# Altium schematic symbol library SDR_LAPAC.SCHLIB: 33 symbols
Pins are listed as number, name and electrical type; pins without a type are passive.

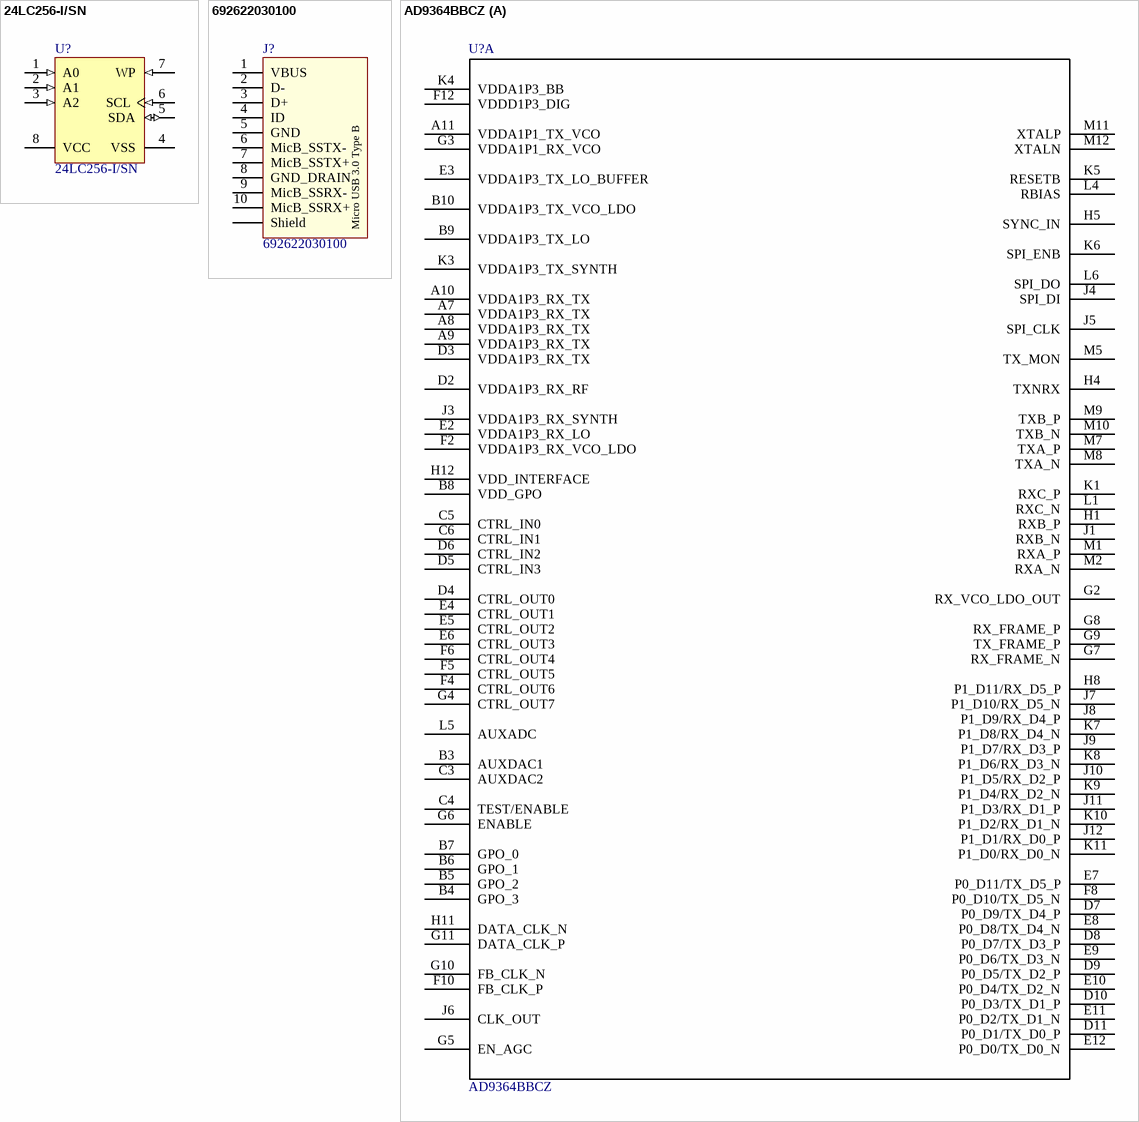
[diagram p0: symbols 24LC256-I/SN to AD9364BBCZ]

## 24LC256-I/SN
designator U?
256Kbit, 400kHz, 2.5V, I2C Serial EEPROM, 8-Pin SOIC 150mil, Industrial Temperature; Manufacturer: Microchip; PartNumber: 24LC256T-I/SN; Descripción: EEPROM 32kx8 - 2.5V; CostoVendedor1: 0.92; Vendedor1: Mouser; Vendedor2: Digi-Key; DataSheet: http://ww1.microchip.com/downloads/en/DeviceDoc/20001203U.pdf; Package: SOIC8; LinkVendedor1: https://ar.mouser.com/ProductDetail/Microchip-Technology/24LC256T-I-SN?qs=sGAEpiMZZMuVhdAcoizlRfa9Ygym%252bTXjZOCyhyW7tm0%3d; Stock1: 5600
footprint SOIC8-N_MC
footprint SOIC-SN8_L (SOIC, 8-Leads, Body 4.9x3.8mm, Pitch 1.27mm, IPC High Density)
footprint SOIC-SN8_M (SOIC, 8-Leads, Body 4.9x3.8mm, Pitch 1.27mm, IPC Low Density)
pins: 1 A0 (in), 2 A1 (in), 3 A2 (in), 4 VSS (power), 5 SDA (io), 6 SCL (in), 7 WP (in), 8 VCC (power)

## 692622030100
designator J?
Micro USB 3.0 Type B Horizontal SMT WR-COM; Vendedor1: Mouser; Vendedor2: Digi-Key
footprint 692622030100 (Micro USB 3.0 Type B Horizontal SMT)
pins: 1 VBUS, 2 D-, 3 D+, 4 ID, 5 GND, 6 MicB_SSTX-, 7 MicB_SSTX+, 8 GND_DRAIN, 9 MicB_SSRX-, 10 MicB_SSRX+, Shell Shield
text: Micro USB 3.0 Type B

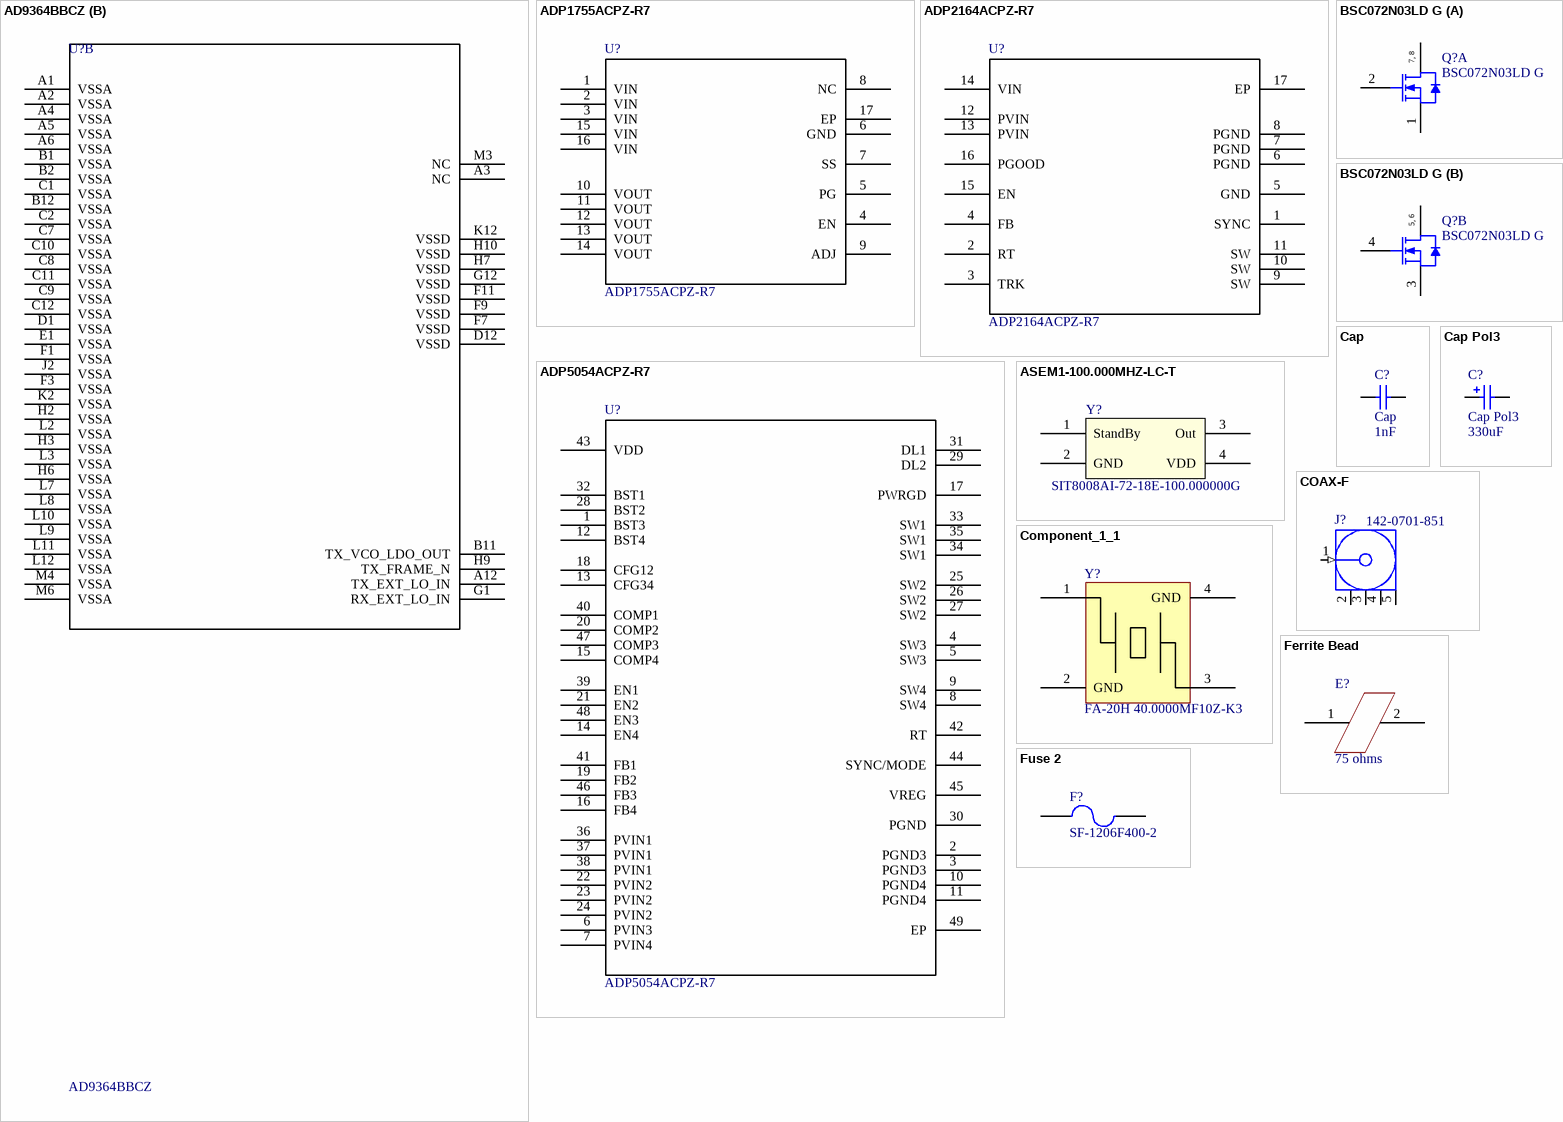
[diagram p1: symbols AD9364BBCZ to Fuse 2]

## AD9364BBCZ
designator U?
Transceiver; Manufacturer: Analog Devices; CostoVendedor1: 176; CostoVendedor2: 200; Requerimiento: Disponible 26 de Julio; Vendedor1: Mouser; Vendedor2: Digi-Key; Value: Value; DataSheet: http://www.mouser.com/ds/2/609/AD9364-586828.pdf; Descripción: Transceiver; PartNumber: AD9364BBCZ; LinkVendedor1: https://ar.mouser.com/ProductDetail/Analog-Devices/AD9364BBCZ?qs=sGAEpiMZZMt%252bz66QWnul0XZd%2fXb1tNSbHpa03Fwpc7M%3d; LinkVendedor2: https://www.digikey.com/product-detail/en/analog-devices-inc/AD9364BBCZ/AD9364BBCZ-ND/4747823?utm_campaign=buynow&utm_medium=aggregator&WT.z_cid=ref_findchips_standard&utm_source=findchips; Stock1: 0; Stock2: 508
footprint BC_144_7_
part A pins: A7 VDDA1P3_RX_TX, A8 VDDA1P3_RX_TX, A9 VDDA1P3_RX_TX, A10 VDDA1P3_RX_TX, A11 VDDA1P1_TX_VCO, B3 AUXDAC1, B4 GPO_3, B5 GPO_2, B6 GPO_1, B7 GPO_0, B8 VDD_GPO, B9 VDDA1P3_TX_LO, B10 VDDA1P3_TX_VCO_LDO, C3 AUXDAC2, C4 TEST/ENABLE, C5 CTRL_IN0, C6 CTRL_IN1, D2 VDDA1P3_RX_RF, D3 VDDA1P3_RX_TX, D4 CTRL_OUT0, D5 CTRL_IN3, D6 CTRL_IN2, D7 P0_D9/TX_D4_P, D8 P0_D7/TX_D3_P, D9 P0_D5/TX_D2_P, D10 P0_D3/TX_D1_P, D11 P0_D1/TX_D0_P, E2 VDDA1P3_RX_LO, E3 VDDA1P3_TX_LO_BUFFER, E4 CTRL_OUT1, E5 CTRL_OUT2, E6 CTRL_OUT3, E7 P0_D11/TX_D5_P, E8 P0_D8/TX_D4_N, E9 P0_D6/TX_D3_N, E10 P0_D4/TX_D2_N, E11 P0_D2/TX_D1_N, E12 P0_D0/TX_D0_N, F2 VDDA1P3_RX_VCO_LDO, F4 CTRL_OUT6, F5 CTRL_OUT5, F6 CTRL_OUT4, F8 P0_D10/TX_D5_N, F10 FB_CLK_P, F12 VDDD1P3_DIG, G2 RX_VCO_LDO_OUT, G3 VDDA1P1_RX_VCO, G4 CTRL_OUT7, G5 EN_AGC, G6 ENABLE, G7 RX_FRAME_N, G8 RX_FRAME_P, G9 TX_FRAME_P, G10 FB_CLK_N, G11 DATA_CLK_P, H1 RXB_P, H4 TXNRX, H5 SYNC_IN, H8 P1_D11/RX_D5_P, H11 DATA_CLK_N, H12 VDD_INTERFACE, J1 RXB_N, J3 VDDA1P3_RX_SYNTH, J4 SPI_DI, J5 SPI_CLK, J6 CLK_OUT, J7 P1_D10/RX_D5_N, J8 P1_D9/RX_D4_P, J9 P1_D7/RX_D3_P, J10 P1_D5/RX_D2_P, J11 P1_D3/RX_D1_P, J12 P1_D1/RX_D0_P, K1 RXC_P, K3 VDDA1P3_TX_SYNTH, K4 VDDA1P3_BB, K5 RESETB, K6 SPI_ENB, K7 P1_D8/RX_D4_N, K8 P1_D6/RX_D3_N, K9 P1_D4/RX_D2_N, K10 P1_D2/RX_D1_N, K11 P1_D0/RX_D0_N, L1 RXC_N, L4 RBIAS, L5 AUXADC, L6 SPI_DO, M1 RXA_P, M2 RXA_N, M5 TX_MON, M7 TXA_P, M8 TXA_N, M9 TXB_P, M10 TXB_N, M11 XTALP, M12 XTALN
part B pins: A1 VSSA, A2 VSSA, A3 NC, A4 VSSA, A5 VSSA, A6 VSSA, A12 TX_EXT_LO_IN, B1 VSSA, B2 VSSA, B11 TX_VCO_LDO_OUT, B12 VSSA, C1 VSSA, C2 VSSA, C7 VSSA, C8 VSSA, C9 VSSA, C10 VSSA, C11 VSSA, C12 VSSA, D1 VSSA, D12 VSSD, E1 VSSA, F1 VSSA, F3 VSSA, F7 VSSD, F9 VSSD, F11 VSSD, G1 RX_EXT_LO_IN, G12 VSSD, H2 VSSA, H3 VSSA, H6 VSSA, H7 VSSD, H9 TX_FRAME_N, H10 VSSD, J2 VSSA, K2 VSSA, K12 VSSD, L2 VSSA, L3 VSSA, L7 VSSA, L8 VSSA, L9 VSSA, L10 VSSA, L11 VSSA, L12 VSSA, M3 NC, M4 VSSA, M6 VSSA

## ADP1755ACPZ-R7
designator U?
Power Regulator; Manufacturer: Analog Devices; Descripción: Reguladores de tensión lineal IC 12A LDO Adj Vout; CostoVendedor1: 2.73; CostoVendedor2: 2.67; Vendedor1: Mouser; Vendedor2: Digi-Key; Value: Value; DataSheet: https://ar.mouser.com/datasheet/2/609/ADP1754_1755-878861.pdf; Package: LFCSP-16; PartNumber: ADP1755ACPZ-R7; LinkVendedor1: https://ar.mouser.com/ProductDetail/Analog-Devices/ADP1755ACPZ-R7?qs=%2fha2pyFaduj0rYTiYwi%252bvltrClumPOBTNNGFW99baabIe0APzbjmKw%3d%3d; LinkVendedor2: https://www.digikey.com/product-detail/en/analog-devices-inc/ADP1755ACPZ-R7/ADP1755ACPZ-R7CT-ND/2467556; Stock1: 8000; Stock2: 3000
footprint CP_16_4
pins: 1 VIN, 2 VIN, 3 VIN, 4 EN, 5 PG, 6 GND, 7 SS, 8 NC, 9 ADJ, 10 VOUT, 11 VOUT, 12 VOUT, 13 VOUT, 14 VOUT, 15 VIN, 16 VIN, 17 EP

## ADP2164ACPZ-R7
designator U?
Power Regulator; Manufacturer: Analog Devices; Descripción: Reguladores de voltaje de conmutación 6.5V 4A Hi Eff Step-Down; CostoVendedor1: 4.19; CostoVendedor2: 4.53; Vendedor1: Mouser; Vendedor2: Digi-Key; DataSheet: https://ar.mouser.com/datasheet/2/609/ADP2164-878845.pdf; Package: 16-WQFN Exposed Pad, CSP; PartNumber: ADP2164ACPZ-R7; LinkVendedor1: https://ar.mouser.com/ProductDetail/Analog-Devices/ADP2164ACPZ-R7?qs=%2fha2pyFadujf48tNAsVG7wmwYCabbHnn9WbWUM3XUTfgJtIhvRpoNA%3d%3d; LinkVendedor2: https://www.digikey.com/product-detail/en/analog-devices-inc/ADP2164ACPZ-R7/ADP2164ACPZ-R7CT-ND/3071271; Stock1: 1700; Stock2: 1800
footprint CP_16_26
pins: 1 SYNC, 2 RT, 3 TRK, 4 FB, 5 GND, 6 PGND, 7 PGND, 8 PGND, 9 SW, 10 SW, 11 SW, 12 PVIN, 13 PVIN, 14 VIN, 15 EN, 16 PGOOD, 17 EP

## ADP5054ACPZ-R7
designator U?
Quad Buck Regulator; Manufacturer: Analog Devices; Descripción: Reguladores de voltaje,SMD,48pins; CostoVendedor1: 9.88; CostoVendedor2: 10.76; Vendedor1: Mouser; Vendedor2: Digi-Key; Value: Value; Package: LFCSP-48; PartNumber: ADP5054ACPZ-R7; DataSheet: http://www.mouser.com/ds/2/609/ADP5054-539876.pdf; LinkVendedor1: https://ar.mouser.com/ProductDetail/Analog-Devices/ADP5054ACPZ-R7?qs=sGAEpiMZZMsgNhPy3wz0s6vYGm9pCoBEqWL8SjhLYQw%3d; LinkVendedor2: https://www.digikey.com/product-detail/en/analog-devices-inc/ADP5054ACPZ-R7/ADP5054ACPZ-R7CT-ND/6568640; Stock1: 1200 en pedido 5 de junio; Stock2: 0 en pedido
footprint CP_48_13
pins: 1 BST3, 2 PGND3, 3 PGND3, 4 SW3, 5 SW3, 6 PVIN3, 7 PVIN4, 8 SW4, 9 SW4, 10 PGND4, 11 PGND4, 12 BST4, 13 CFG34, 14 EN4, 15 COMP4, 16 FB4, 17 PWRGD, 18 CFG12, 19 FB2, 20 COMP2, 21 EN2, 22 PVIN2, 23 PVIN2, 24 PVIN2, 25 SW2, 26 SW2, 27 SW2, 28 BST2, 29 DL2, 30 PGND, 31 DL1, 32 BST1, 33 SW1, 34 SW1, 35 SW1, 36 PVIN1, 37 PVIN1, 38 PVIN1, 39 EN1, 40 COMP1, 41 FB1, 42 RT, 43 VDD, 44 SYNC/MODE, 45 VREG, 46 FB3, 47 COMP3, 48 EN3, 49 EP

## ASEM1-100.000MHZ-LC-T
designator Y?, comment SIT8008AI-72-18E-100.000000G
Crystal; Manufacturer: SiTIME; Descripción: OSC MEMS 100.0000MHZ LVCMOS SMD; Tolerance: 20 PPM; Value: 100.000 MHz; CostoVendedor1: 1.23; Vendedor1: Mouser; Vendedor2: Digi-Key; DataSheet: https://media.digikey.com/pdf/Data%20Sheets/SiTime%20PDFs/SiT8008A.pdf; Package: 0.079" L x 0.063" W (2.00mm x 1.60mm); PartNumber: SIT8008AI-72-18E-100.000000G; LinkVendedor2: https://www.digikey.com/product-detail/en/sitime/SIT8008AI-72-18E-100.000000G/1473-30508-1-ND/7516960; Stock2: 250
footprint SiT2002AI-72-18E-100.000000G (Oscillator 100MHz 50 ppm)
pins: 1 StandBy, 2 GND, 3 Out, 4 VDD

## BSC072N03LD G
designator Q?
N-Channel OptiMOS 3 Power-Transistors, 30 V VDS, 20 A ID, -55 to 150 degC, PG-TDSON-8-4, Reel, Green; Manufacturer: Infineon; Descripción: MOSFET N-Ch 30V 20A TDSON-8 OptiMOS 3; CostoVendedor1: 1.31; CostoVendedor2: 1.65; Vendedor1: Mouser; Vendedor2: Digi-Key; PartNumber: BSC072N03LD G; DataSheet: https://ar.mouser.com/datasheet/2/196/BSC072N03LD_rev1.4-1225291.pdf; LinkVendedor1: https://ar.mouser.com/ProductDetail/Infineon-Technologies/BSC072N03LD-G?qs=sGAEpiMZZMshyDBzk1%2fWi9Xn%2fBYY8cyRAJeqSQNLNhI%3d; LinkVendedor2: https://www.digikey.com/product-detail/en/infineon-technologies/BSC072N03LDGATMA1/BSC072N03LDGATMA1CT-ND/2231036; Stock1: 5900; Stock2: 10300
footprint INF-PG-TDSON-8-4_V (SON, 8-Leads, Body 5.9x5.15mm, Pitch 1.27mm)
part A pins: 1 S1, 2 G1, 7 D1, 8 D1
part B pins: 3 S2, 4 G2, 5 D2, 6 D2
part A text: 7, 8
part B text: 5, 6

## Cap
designator C?  value 1nF
Capacitor; Manufacturer: Murata; PartNumber: GRM1555C1H102FA01D; Tolerance: 10%; Descripción: 50V SMD; CostoVendedor1: 0.25; Vendedor1: Mouser; Vendedor2: Digi-Key; Package: 0402; DataSheet: http://www.mouser.com/ds/2/281/c02e-2905.pdf; LinkVendedor1: https://ar.mouser.com/ProductDetail/Murata-Electronics/GRM1555C1H102FA01D?qs=sGAEpiMZZMs0AnBnWHyRQHS%2f3XE0oMwxlJflngdMc0Y%3d; Stock1: 95000
simulation model CAP (Capacitor)
signal-integrity model Cap
footprint GRM0402MurataCap
pins: 1, 2

## Cap Pol3
designator C?  value 330uF
Polarized Capacitor (Surface Mount); PartNumber: T520V337M2R5ATE025; Manufacturer: KEMET; Tolerance: 20%; Descripción: Capacitores de tantalio - SMD de polímero 330uF 2.5V ESR=25; CostoVendedor1: 3.7; Vendedor1: Mouser; Vendedor2: Digi-Key; Package: 2917; DataSheet: http://www.mouser.com/ds/2/212/Datasheet-T520V337M2R5ATE025-1079218.pdf; LinkVendedor1: https://ar.mouser.com/ProductDetail/KEMET/T520V337M2R5ATE025?qs=sGAEpiMZZMtZ1n0r9vR22YwJteCdQAdahWeFkhHH95Y%3d; Stock1: 144
footprint C0805 (Chip Capacitor, Body 2.0x1.3mm, IPC High Density)
footprint T (Footprint not found)
footprint 1825 (Chip Capacitor, Body 4.5x6.4mm, IPC High Density)
footprint C2225 (Chip Capacitor, Body 5.7x6.4mm, IPC High Density)
footprint 2220 (Chip Capacitor, Body 5.7x5.0mm, IPC High Density)
simulation model CAP (Capacitor)
signal-integrity model Cap Pol
footprint 7343 (Kemet Cap 7343)
pins: 1, 2
1 alternate drawing of the same symbol

## COAX-F
designator J?, comment 142-0701-851
RF Coaxial PCB Connector, MCX; Thru-Hole, Right-Angle Mount Socket, Blunt Post Terminal, 50 Ohm Impedance; Vendedor1: Mouser; Vendedor2: Digi-Key
footprint J502-ND-142-0701-851/861
pins: 1 Signal (in) "Signal Pin", 2 GND (power), 3 GND (power), 4 GND (power), 5 GND (power)

## Component_1_1
designator Y?, comment FA-20H 40.0000MF10Z-K3
Crystal; Manufacturer: Epson; Descripción: Cristales 40MHz 10ppm 10pF -20C +75C; CostoVendedor1: 0.73; Vendedor1: Mouser; Vendedor2: Digi-Key; DataSheet: http://www.mouser.com/ds/2/137/A-20H_en-932938.pdf; PartNumber: FA-20H 40.0000MF10Z-K3; LinkVendedor1: https://ar.mouser.com/ProductDetail/Epson-Timing/FA-20H-400000MF10Z-K3?qs=%2fha2pyFadujuEaJmRI34tlQPzQojZDIPOS1ANIFqpboCpjGmZ0XFoEeTXimjZ5yU; Stock1: 1000
footprint FA-20H
pins: 1, 2 GND, 3, 4 GND

## Ferrite Bead
designator E?, comment 75 ohms
Ferrite bead; Manufacturer: Murata; PartNumber: BLM15BA750SN1D; Descripción: Núcleos de ferrita 75 Ohm 25%; Tolerance: 25%; CostoVendedor1: 0.11; Vendedor1: Mouser; Vendedor2: Digi-Key; DataSheet: http://www.murata.com/en-sg/products/productdata/8796740059166/ENFA0018.pdf?1492659014000; Package: 0402; LinkVendedor1: https://ar.mouser.com/ProductDetail/Murata-Electronics/BLM15BA750SN1D?qs=%2fha2pyFadugypmZvoBhUrnbAQirXWa5lakCap2sUy2P%252bLlFZb%252bhNLA%3d%3d; Stock1: 47000
footprint BLM15BA750SN1D
pins: 1, 2

## Fuse 2
designator F?, comment SF-1206F400-2
Fuse; Manufacturer: Bourns; Descripción: Fusibles de montaje en superficie 4A Fast Acting 1206 SinglFuse; CostoVendedor1: 0.64; CostoVendedor2: 0.7; Vendedor1: Mouser; Vendedor2: Digi-Key; DataSheet: https://ar.mouser.com/datasheet/2/54/f1206f-778027.pdf; Package: 1206; PartNumber: SF-1206F400-2; LinkVendedor1: https://ar.mouser.com/ProductDetail/Bourns/SF-1206F400-2?qs=%2fha2pyFaduiJTUzueKLhiMR0aUaVyxFPYo0Hu54FEa%2fcIJ4S4yMKPA%3d%3d; LinkVendedor2: https://www.digikey.com/product-detail/en/bourns-inc/SF-1206F400-2/SF-1206F400-2CT-ND/1948208; Stock1: 5000; Stock2: 1400
footprint SF-1206F400-2
simulation model FUSE (Spice Subcircuit)
pins: 1, 2

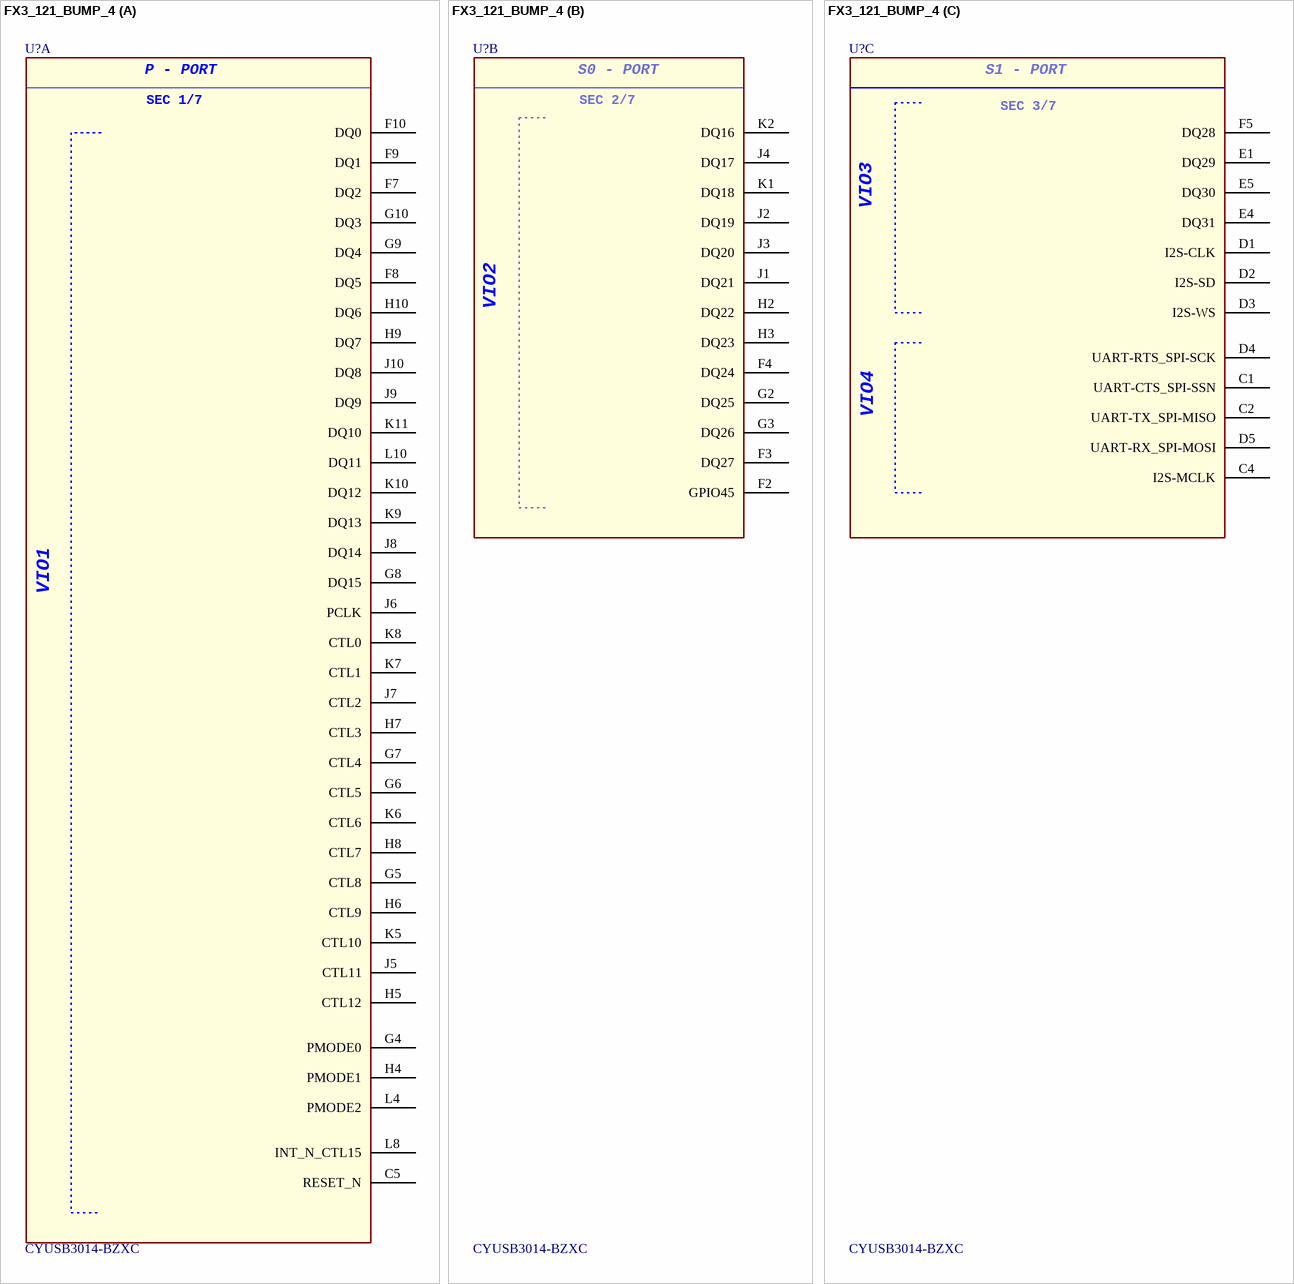
[diagram p2: symbol FX3_121_BUMP_4]

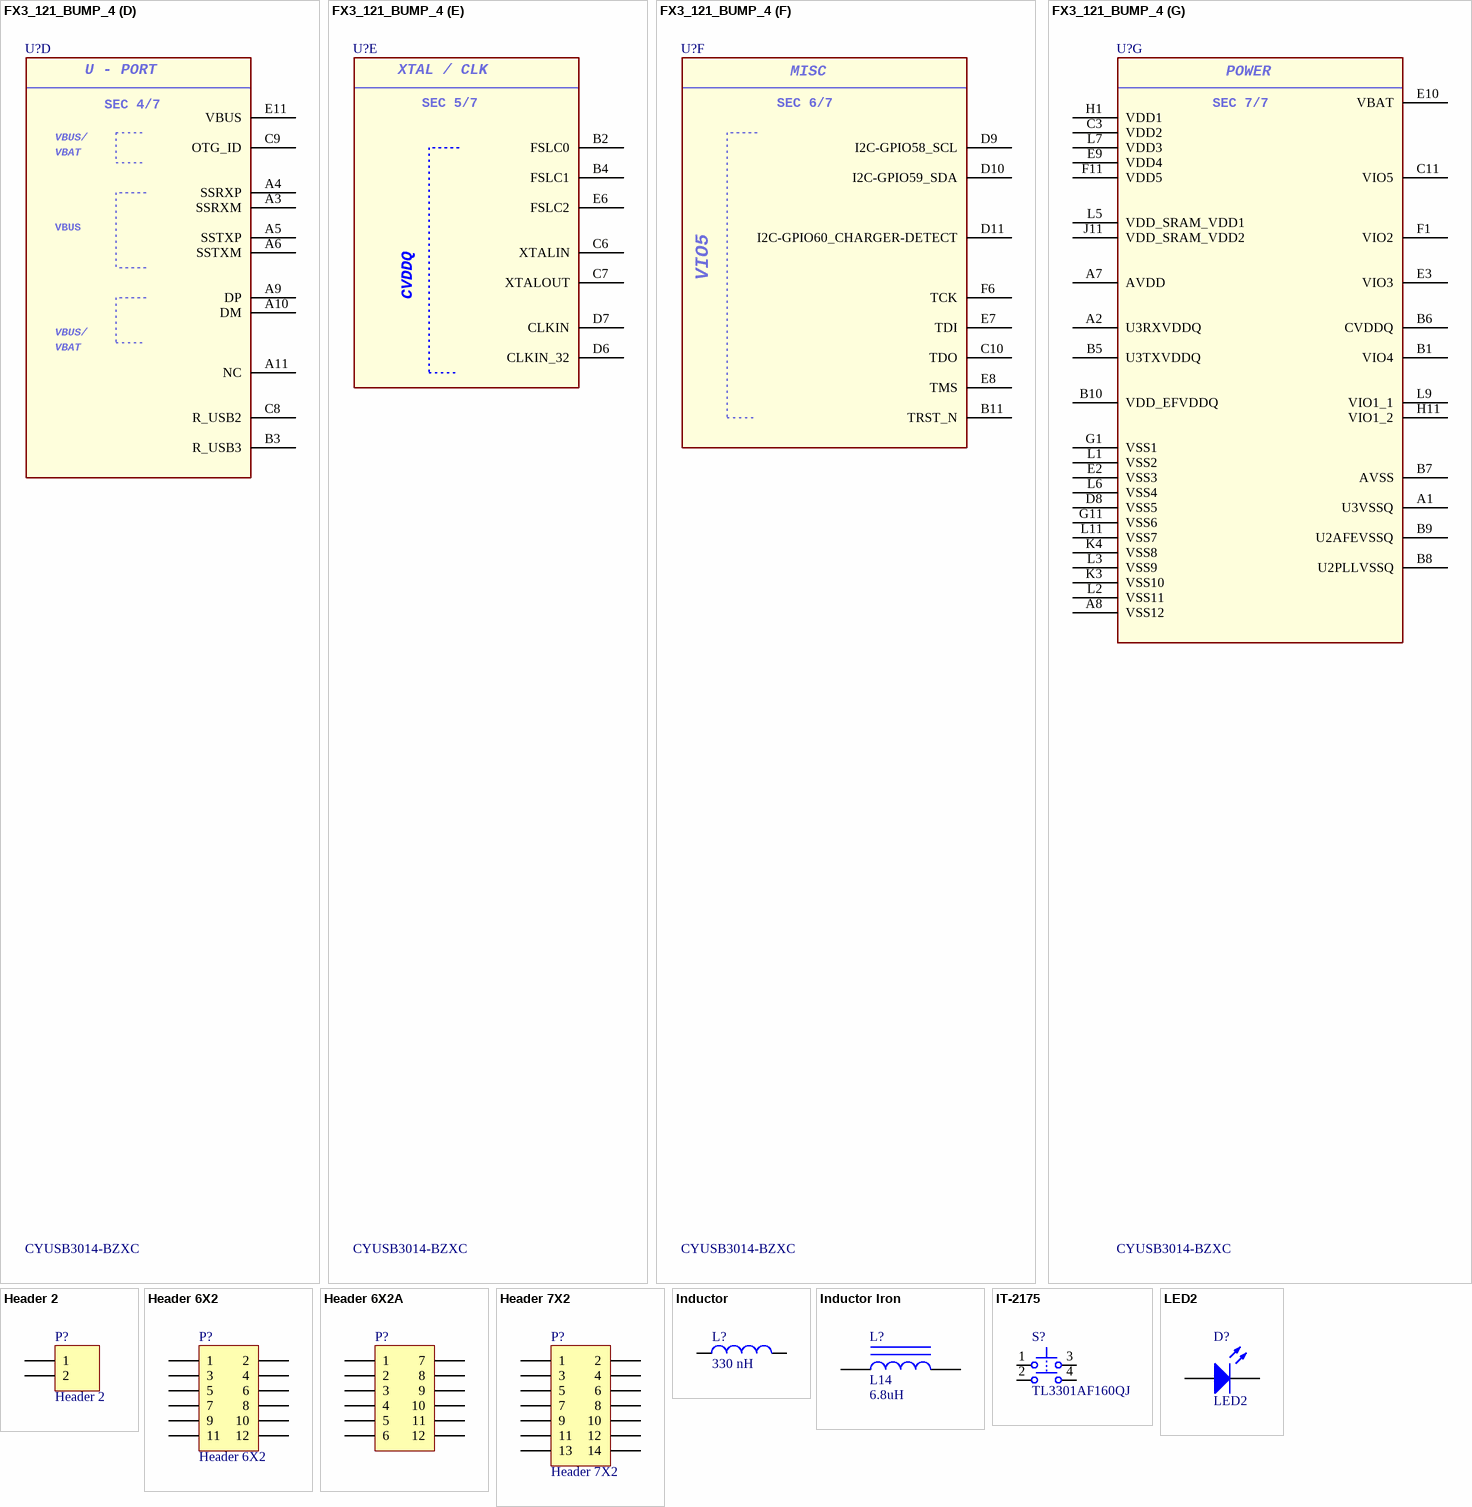
[diagram p3: symbols FX3_121_BUMP_4 to LED2]

## FX3_121_BUMP_4
designator U?, comment CYUSB3014-BZXC
USB Controller; Manufacturer: Cypress Semiconductor; CostoVendedor1: 30.7; CostoVendedor2: 31.7; Vendedor1: Mouser; Vendedor2: Digi-Key; DataSheet: http://www.mouser.com/ds/2/100/001-52136_CYUSB301X_CYUSB201X_EZ-USB_R_FX3_SUPERSP-371593.pdf; Descripción: USB Controller; Package: BGA-121; PartNumber: CYUSB3014-BZXC; LinkVendedor1: https://ar.mouser.com/ProductDetail/Cypress-Semiconductor/CYUSB3014-BZXC?qs=sGAEpiMZZMtv%252bwxsgy%2fhiKzKeKykxm1HOnMAKcwg04A%3d; LinkVendedor2: https://www.digikey.com/product-detail/en/cypress-semiconductor-corp/CYUSB3014-BZXC/428-3182-ND/3679585; Stock1: 4000; Stock2: 3500
footprint 121_BGA_FX3
footprint BGA-121
part A pins: C5 RESET_N, F7 DQ2, F8 DQ5, F9 DQ1, F10 DQ0, G4 PMODE0, G5 CTL8, G6 CTL5, G7 CTL4, G8 DQ15, G9 DQ4, G10 DQ3, H4 PMODE1, H5 CTL12, H6 CTL9, H7 CTL3, H8 CTL7, H9 DQ7, H10 DQ6, J5 CTL11, J6 PCLK, J7 CTL2, J8 DQ14, J9 DQ9, J10 DQ8, K5 CTL10, K6 CTL6, K7 CTL1, K8 CTL0, K9 DQ13, K10 DQ12, K11 DQ10, L4 PMODE2, L8 INT_N_CTL15, L10 DQ11
part B pins: F2 GPIO45, F3 DQ27, F4 DQ24, G2 DQ25, G3 DQ26, H2 DQ22, H3 DQ23, J1 DQ21, J2 DQ19, J3 DQ20, J4 DQ17, K1 DQ18, K2 DQ16
part C pins: C1 UART-CTS_SPI-SSN, C2 UART-TX_SPI-MISO, C4 I2S-MCLK, D1 I2S-CLK, D2 I2S-SD, D3 I2S-WS, D4 UART-RTS_SPI-SCK, D5 UART-RX_SPI-MOSI, E1 DQ29, E4 DQ31, E5 DQ30, F5 DQ28
part D pins: A3 SSRXM, A4 SSRXP, A5 SSTXP, A6 SSTXM, A9 DP, A10 DM, A11 NC, B3 R_USB3, C8 R_USB2, C9 OTG_ID, E11 VBUS
part E pins: B2 FSLC0, B4 FSLC1, C6 XTALIN, C7 XTALOUT, D6 CLKIN_32, D7 CLKIN, E6 FSLC2
part F pins: B11 TRST_N, C10 TDO, D9 I2C-GPIO58_SCL, D10 I2C-GPIO59_SDA, D11 I2C-GPIO60_CHARGER-DETECT, E7 TDI, E8 TMS, F6 TCK
part G pins: A1 U3VSSQ, A2 U3RXVDDQ, A7 AVDD, A8 VSS12, B1 VIO4, B5 U3TXVDDQ, B6 CVDDQ, B7 AVSS, B8 U2PLLVSSQ, B9 U2AFEVSSQ, B10 VDD_EFVDDQ, C3 VDD2, C11 VIO5, D8 VSS5, E2 VSS3, E3 VIO3, E9 VDD4, E10 VBAT, F1 VIO2, F11 VDD5, G1 VSS1, G11 VSS6, H1 VDD1, H11 VIO1_2, J11 VDD_SRAM_VDD2, K3 VSS10, K4 VSS8, L1 VSS2, L2 VSS11, L3 VSS9, L5 VDD_SRAM_VDD1, L6 VSS4, L7 VDD3, L9 VIO1_1, L11 VSS7
part A text: P - PORT; SEC 1/7; VIO1
part B text: S0 - PORT; SEC 2/7
part C text: S1 - PORT; SEC 3/7
part D text: U - PORT; SEC 4/7; VBUS/
part E text: XTAL / CLK; SEC 5/7
part F text: MISC; SEC 6/7
part G text: POWER; SEC 7/7

## Header 2
designator P?
Header, 2-Pin; Manufacturer: TE Connectivity; PartNumber: 826629; Descripción: Header 2x1 step 2,54mm; CostoVendedor1: 0.18; Vendedor1: Mouser; Vendedor2: Digi-Key; DataSheet: https://ar.mouser.com/datasheet/2/418/NG_CD_826629_AC-673634.pdf; LinkVendedor1: https://ar.mouser.com/ProductDetail/TE-Connectivity-AMP/5-826629-0?qs=sGAEpiMZZMuSK2mCDyT9clxPLHEBGojU; Stock1: 3600
signal-integrity model Connector
footprint Header2x1
pins: 1, 2

## Header 6X2
designator P?
Header, 6-Pin, Dual row; Vendedor1: Mouser; Vendedor2: Digi-Key
footprint HDR2X6 (Connector; Header; 6x2 Position)
signal-integrity model Connector
pins: 1, 2, 3, 4, 5, 6, 7, 8, 9, 10, 11, 12

## Header 6X2A
designator P?
Header, 6-Pin, Dual row; Manufacturer: Sullins Connector Solutions; PartNumber: PPTC062LJBN-RC; CostoVendedor1: 1.23; Descripción: CONN FEMALE 12POS DL .1" R/A TIN; Vendedor1: Digi-Key; Vendedor2: Mouser; DataSheet: http://sullinscorp.com/drawings/101_P(N)PxCxx2LJBN-RC,_10494-H.pdf; LinkVendedor2: https://www.digikey.com/product-detail/en/sullins-connector-solutions/PPTC062LJBN-RC/S5520-ND/775978; Stock2: 2290
footprint PPTC062LJBN-RC
signal-integrity model Connector
pins: 1, 2, 3, 4, 5, 6, 7, 8, 9, 10, 11, 12

## Header 7X2
designator P?
Header, 7-Pin, Dual row; Manufacturer: Molex; PartNumber: 87832-1420; Descripción: Alojamientos de cables y cabecera 14P SMD PB FREE SHRD; CostoVendedor1: 1.75; CostoVendedor2: 1.74; Vendedor1: Mouser; Vendedor2: Digi-Key; DataSheet: https://ar.mouser.com/datasheet/2/276/0878321420_PCB_HEADERS-176595.pdf; LinkVendedor1: https://ar.mouser.com/ProductDetail/Molex/87832-1420?qs=%2fha2pyFaduiiexCbvhC%252bV5aCpyqD3SQm%252bESSuZw9dWA%3d; LinkVendedor2: https://www.digikey.com/products/en?keywords=87832-1420; Stock1: 4000; Stock2: 11000
footprint MolexHeader2x7_
signal-integrity model Connector
pins: 1, 2, 3, 4, 5, 6, 7, 8, 9, 10, 11, 12, 13, 14

## Inductor
designator L?, comment value 330 nH  (hidden comment: B82498F3331J)
Inductor; Manufacturer: TDK; Descripción: Inductores fijos 330nH 220mA 5% 2.3x1.7mm SMD; CostoVendedor1: 0.81; Vendedor1: Mouser; Vendedor2: Digi-Key; DataSheet: http://www.mouser.com/ds/2/400/b82498f-596539.pdf; Package: 0805; PartNumber: B82498F3331J; LinkVendedor1: https://ar.mouser.com/ProductDetail/EPCOS-TDK/B82498F3331J?qs=sGAEpiMZZMsg%252by3WlYCkUwkmiFJnoZ0di2L4sEIoqKU%3d; Stock1: 8000
footprint 0402-A (Chip Inductor, Body 1.0x0.5mm, IPC High Density)
footprint B82498F3331J
footprint 2029 (Chip Inductor, Body 2.0x1.2mm, IPC High Density)
footprint 0603 (Chip Inductor, Body 0.6x0.3mm, IPC High Density)
footprint INDC3216 (Chip Inductor, Body 3.2x1.6mm, IPC High Density)
footprint INDC4532 (Chip Inductor, Body 4.5x3.2mm, IPC High Density)
simulation model INDUCTOR (Inductor)
signal-integrity model Inductor
pins: 1, 2

## Inductor Iron
designator L?, comment L14  value 6.8uH
Magnetic-Core Inductor; Manufacturer: Coilcraft; PartNumber: XAL8080-682MEB; Tolerance: 20%; Descripción: Inductores fijos XFL4020 AEC-Q200 4.7 uH 20 % 5 A; CostoVendedor1: 5.82; Vendedor1: Mouser; Vendedor2: Digi-Key; Package: XAL8080; DataSheet: http://www.mouser.com/ds/2/597/mlc-270743.pdf; LinkVendedor1: https://ar.mouser.com/ProductDetail/Coilcraft/XAL8080-682MEB?qs=sGAEpiMZZMsg%252by3WlYCkU2kWFds1hA9DVDzSXdWXN94%3d; Stock1: 420
footprint XAL8080-682 (Coilcraft High Temperature Shielded Power Inductors)
simulation model INDUCTOR (Inductor)
signal-integrity model Inductor Iron
pins: 1, 2

## IT-2175
designator S?, comment TL3301AF160QJ
Tactile Switch, DPST; Thru-Hole; Vertical; Rating DC 12V, 50mA (max); Manufacturer: E-Switch; Descripción: Interruptores táctiles SPST SMD J-LEAD; CostoVendedor1: 0.43; Vendedor1: Mouser; Vendedor2: Digi-Key; DataSheet: https://www.e-switch.com/system/asset/product_line/data_sheet/158/TL3301.pdf; Package: J; PartNumber: TL3301AF160QJ; CostoVendedor2: 0.43; LinkVendedor1: https://ar.mouser.com/ProductDetail/E-Switch/TL3301AF160QJ?qs=%2fha2pyFadujx3gv2iG25gcw5Jio7UDqaqTkcH4vR60LrUmuJb9BKTQ%3d%3d; LinkVendedor2: https://www.digikey.com/product-detail/en/e-switch/TL3301AF160QJ/EG4374CT-ND/1144804; Stock1: 2800; Stock2: 44000
footprint TL3301AF160QJ
pins: 1, 2, 3, 4

## LED2
designator D?
Typical RED, GREEN, YELLOW, AMBER GaAs LED; Manufacturer: Panasonic; PartNumber: LTST-C193TGKT-5A; Descripción: LED estándar - SMD (montaje superficial) LED RED RECT; CostoVendedor1: 0.28; Vendedor1: Mouser; Vendedor2: Digi-Key; DataSheet: http://www.mouser.com/ds/2/315/LNJ247W82RA_E-947457.pdf; Package: 0603; LinkVendedor1: https://ar.mouser.com/ProductDetail/Lite-On/LTST-C193TGKT-5A?qs=sGAEpiMZZMseGfSY3csMkTQVMbQ3YFstHskAr8LAtWI%3d; Stock1: 29700
footprint 3.2X1.6X1.1 (SMT LED; 2 Flat Leads)
simulation model LED2 (Diode)
footprint LTSTC191
pins: 1 A, 2 K

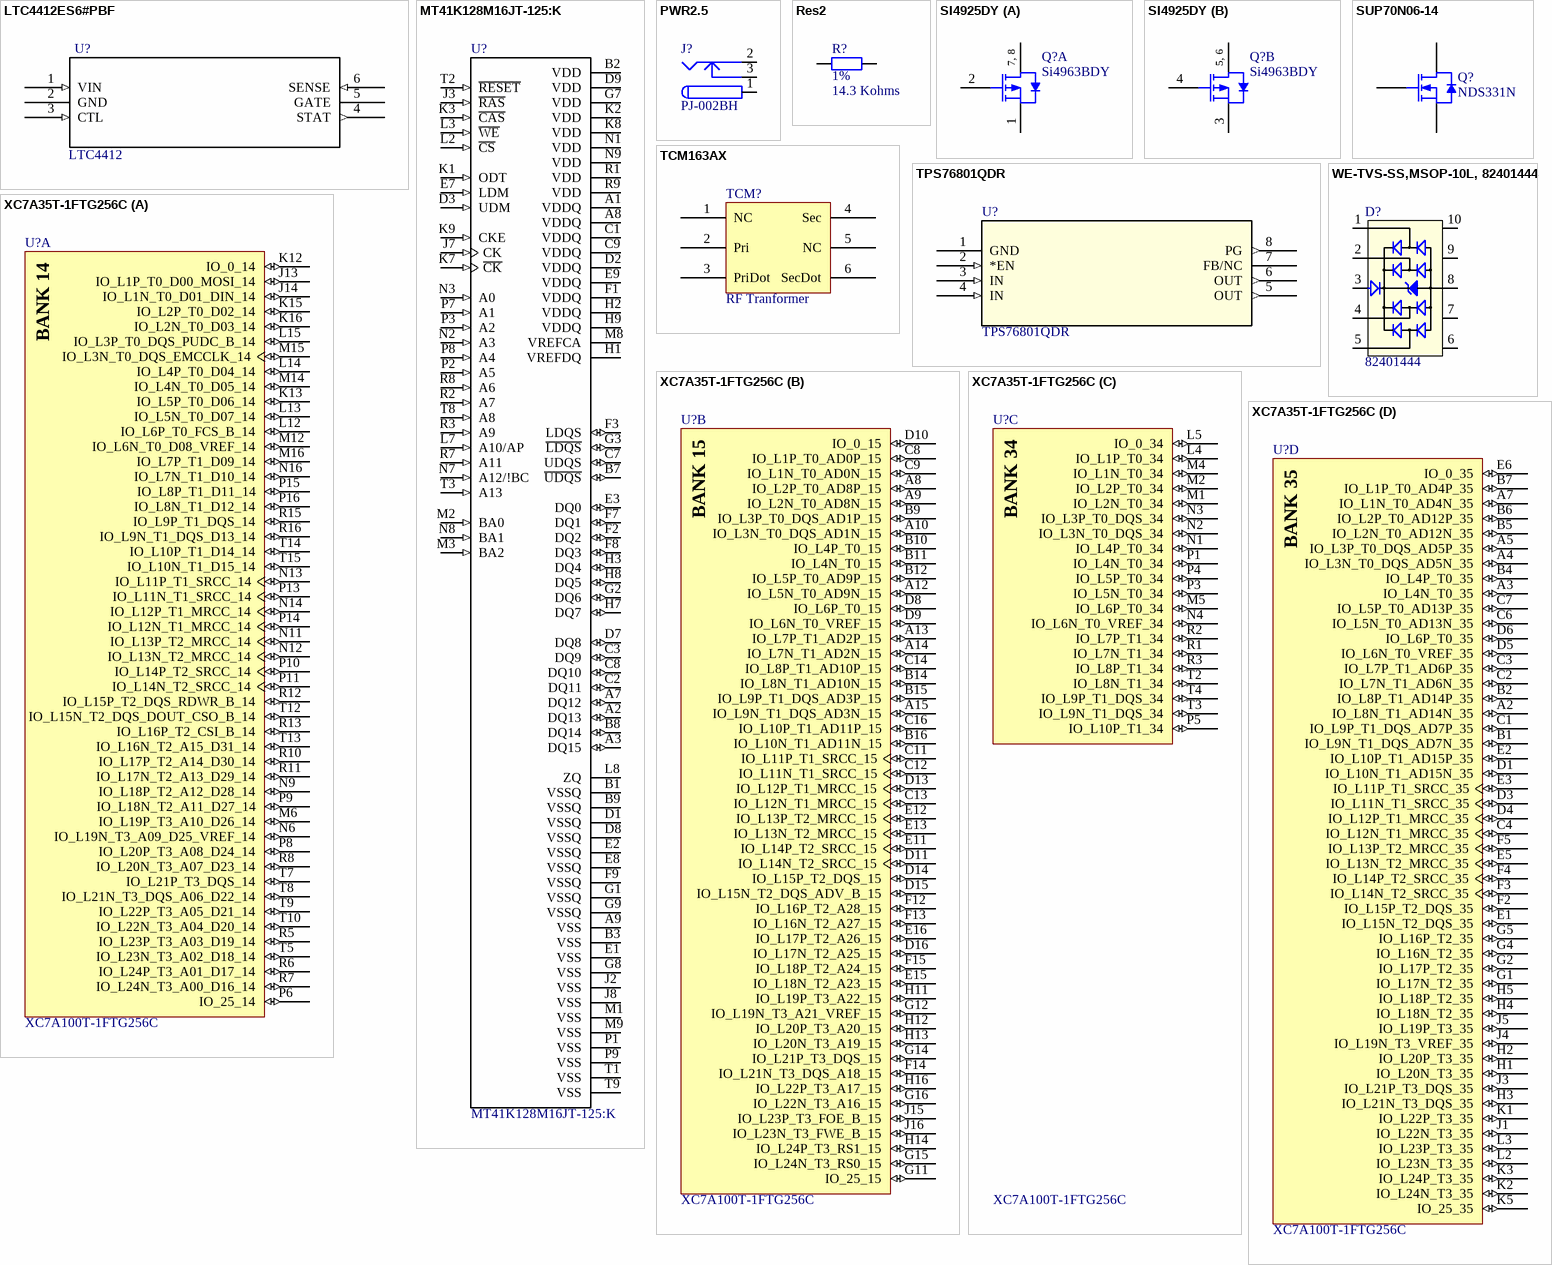
[diagram p4: symbols LTC4412ES6#PBF to XC7A35T-1FTG256C]

## LTC4412ES6#PBF
designator U?, comment LTC4412
Power Path Selector; Manufacturer: Analog Devices; PartNumber: LTC4412ES6#TRMPBF; Descripción: Gestión de energía especializada - circuitos integrados de gestión de potencia (PMIC) Automatic PowerPath Controller in ThinSOT; CostoVendedor1: 3.25; Vendedor1: Mouser; Vendedor2: Digi-Key; Value: Value; DataSheet: https://ar.mouser.com/datasheet/2/609/4412fb-1268394.pdf; LinkVendedor1: https://ar.mouser.com/ProductDetail/Analog-Devices/LTC4412ES6TRMPBF?qs=sGAEpiMZZMvi6wO7nhr1Lzmxu3AecYhW9QhHJhp0CGA%3d; Stock1: 2700
footprint TSOT-23_S6
pins: 1 VIN (in), 2 GND (power), 3 CTL (in), 4 STAT (out), 5 GATE, 6 SENSE (in)

## MT41K128M16JT-125:K
designator U?
DRAM Chip DDR3L SDRAM 2G-Bit 128Mx16 1.35V 96-Pin FBGA; Manufacturer: Micron; CostoVendedor2: 10.53; Vendedor1: Mouser; Vendedor2: Digi-Key; Package: TFBGA-96 Micron; Value: *; DataSheet: https://4donline.ihs.com/images/VipMasterIC/IC/MICT/MICT-S-A0002296722/MICT-S-A0002296722-1.pdf; Descripción: DRAM Chip DDR3L SDRAM 2G-Bit 128Mx16 1.35V 96-Pin FBGA; PartNumber: MT41K128M16JT-125:K; LinkVendedor2: https://www.digikey.com/product-detail/en/micron-technology-inc/MT41K128M16JT-125-XIT:K/557-1753-ND/4072478?utm_campaign=buynow&utm_medium=aggregator&WT.z_cid=ref_findchips_standard&utm_source=findchips
footprint BGA80P96C6X16_800X1400X110_MT41K128M16JT-125:K(Primary) (Footprint not found)
footprint BGA80P96C6X16_800X1400X110_MT41K128M16JT-125:K(Primary)
pins: A1 VDDQ (power), A2 DQ13 (io), A3 DQ15 (io), A7 DQ12 (io), A8 VDDQ (power), A9 VSS, B1 VSSQ, B2 VDD (power), B3 VSS, B7 ~{UDQS} (io), B8 DQ14 (io), B9 VSSQ, C1 VDDQ (power), C2 DQ11 (io), C3 DQ9 (io), C7 UDQS (io), C8 DQ10 (io), C9 VDDQ (power), D1 VSSQ, D2 VDDQ (power), D3 UDM (in), D7 DQ8 (io), D8 VSSQ, D9 VDD (power), E1 VSS, E2 VSSQ, E3 DQ0 (io), E7 LDM (in), E8 VSSQ, E9 VDDQ (power), F1 VDDQ (power), F2 DQ2 (io), F3 LDQS (io), F7 DQ1 (io), F8 DQ3 (io), F9 VSSQ, G1 VSSQ, G2 DQ6 (io), G3 ~{LDQS} (io), G7 VDD (power), G8 VSS, G9 VSSQ, H1 VREFDQ (power), H2 VDDQ (power), H3 DQ4 (io), H7 DQ7 (io), H8 DQ5 (io), H9 VDDQ (power), J2 VSS, J3 ~{RAS} (in), J7 CK (in), J8 VSS, K1 ODT (in), K2 VDD (power), K3 ~{CAS} (in), K7 ~{CK} (in), K8 VDD (power), K9 CKE (in), L2 ~{CS} (in), L3 ~{WE} (in), L7 A10/AP (in), L8 ZQ, M1 VSS, M2 BA0 (in), M3 BA2 (in), M8 VREFCA (power), M9 VSS, N1 VDD (power), N2 A3 (in), N3 A0 (in), N7 A12/!BC (in), N8 BA1 (in), N9 VDD (power), P1 VSS, P2 A5 (in), P3 A2 (in), P7 A1 (in), P8 A4 (in), P9 VSS, R1 VDD (power), R2 A7 (in), R3 A9 (in), R7 A11 (in), R8 A6 (in), R9 VDD (power), T1 VSS, T2 ~{RESET} (in), T3 A13 (in), T8 A8 (in), T9 VSS

## PWR2.5
designator J?, comment PJ-002BH
Low Voltage Power Supply Connector; Manufacturer: CUI; Descripción: Conectores de corriente CD Power Jacks; CostoVendedor1: 0.74; Vendedor1: Mouser; Vendedor2: Digi-Key; DataSheet: http://www.mouser.com/ds/2/670/pj-002bh-528069.pdf; Package: PJ; PartNumber: PJ-002BH; CostoVendedor2: 0.74; LinkVendedor1: https://ar.mouser.com/ProductDetail/CUI/PJ-002BH?qs=sGAEpiMZZMtnOp%252bbbqA009lE0K0K%252bPZGI3zhVhcJhgMK7491%2f27uFQ%3d%3d; LinkVendedor2: https://www.digikey.com/product-detail/en/cui-inc/PJ-002BH/CP-002BH-ND/408447; Stock1: 3000; Stock2: 27000
footprint PJ-002BH
signal-integrity model Connector
pins: 1 (power), 1A (power), 1B (power), 2 (power), 2A (power), 2B (power), 3 (power), 3A (power), 3B (power)

## Res2
designator R?, comment 1%  value 14.3 Kohms
Resistor; Manufacturer: Panasonic; PartNumber: ERJ-2RKF1432X; Descripción: 100mw 50V; Vendedor1: Mouser; Vendedor2: Digi-Key; Package: 0402; Tolerance: 1%; DataSheet: http://www.mouser.com/ds/2/315/AOA0000C283-1093288.pdf
simulation model RESISTOR (Resistor)
signal-integrity model Res
footprint RC0402N
pins: 1, 2

## SI4925DY
designator Q?, comment Si4963BDY
Dual P-Channel 30V (D-S)  MOSFET
footprint SO-8_N (SOIC, 8-Leads, Body 4.9x3.9mm, Pitch 1.27mm, IPC Medium Density)
footprint SO-8_L (SOIC, 8-Leads, Body 4.9x3.9mm, Pitch 1.27mm, IPC High Density)
footprint SO-8_M (SOIC, 8-Leads, Body 4.9x3.9mm, Pitch 1.27mm, IPC Low Density)
3D model SO-8 (8-Pin Small Outline Integrated Circuit 1.27 mm Pitch)
simulation model SI4925DY (SUBCKT)
part A pins: 1 S, 2 G, 7 D, 8 D
part B pins: 3 S, 4 G, 5 D, 6 D
part A text: 7, 8
part B text: 5, 6

## SUP70N06-14
designator Q?, comment NDS331N
N-Channel 60V (D-S), 175'C  MOSFET; Manufacturer: On Semiconductor; Descripción: MOSFET N-Ch Digital; CostoVendedor1: 0.35; CostoVendedor2: 0.44; Vendedor1: Mouser; Vendedor2: Digi-Key; DataSheet: https://ar.mouser.com/datasheet/2/308/NDS331N-1125222.pdf; Package: SOT23; PartNumber: NDS331N; LinkVendedor1: https://ar.mouser.com/ProductDetail/ON-Semiconductor-Fairchild/NDS331N?qs=%2Fha2pyFaduhqNlXqKbr%252BjEIU%252BqNoYpa937WlNrMOk8Sienkx2gIkoQ%3D%3D&utm_source=octopart&utm_medium=aggregator&utm_campaign=512-NDS331N&utm_content=ON%20Semiconductor; LinkVendedor2: https://www.digikey.com/product-detail/es/NDS331N/NDS331NCT-ND/458997?utm_campaign=buynow&WT.z_cid=ref_octopart_dkc_buynow&utm_medium=aggregator&curr=usd&site=us&utm_source=octopart; Stock1: 340000; Stock2: 135000
footprint ON_Semi_527AG-01_0
simulation model SUP70N06-14 (SUBCKT)
pins: 1 G, 2 D, 3 S

## TCM163AX
designator TCM?, comment RF Tranformer
Manufacturer: Mini-Circuits; PartNumber: TCM1-63AX+; CostoVendedor1: 6.95; DataSheet: https://www.minicircuits.com/WebStore/dashboard.html?model=TCM1-63AX%2B; Descripción: RF Tranformer; CostoVendedor2: 6.95; LinkVendedor1: https://www.minicircuits.com/WebStore/dashboard.html?model=TCM1-63AX%2B; LinkVendedor2: https://www.minicircuits.com/WebStore/dashboard.html?model=TCM1-63AX%2B; Vendedor1: Mini-Circuits; Vendedor2: Mini-Circuits
footprint TCM
pins: 1 NC, 2 Pri, 3 PriDot, 4 Sec, 5 NC, 6 SecDot

## TPS76801QDR
designator U?
Power Regulator; Manufacturer: Texas Instruments; Descripción: Reguladores de tensión LDO Micropower LDO Reg; CostoVendedor1: 2.78; CostoVendedor2: 2.87; Vendedor1: Mouser; Vendedor2: Digi-Key; DataSheet: http://www.ti.com/lit/ds/symlink/tps768.pdf; Package: 8-SOIC; PartNumber: TPS76801QDR; LinkVendedor1: https://ar.mouser.com/ProductDetail/Texas-Instruments/TPS76801QDR?qs=sGAEpiMZZMsGz1a6aV8DcPXeWoVS0Fnz%252bcHJMWzMTmI%3d; LinkVendedor2: https://www.digikey.com/product-detail/en/texas-instruments/TPS76801QDR/296-39494-1-ND/5143442; Stock1: 3900; Stock2: 7000
footprint D8
pins: 1 GND (power), 2 *EN (in), 3 IN (in), 4 IN (in), 5 OUT (out), 6 OUT (out), 7 FB/NC, 8 PG (out)

## WE-TVS-SS,MSOP-10L, 82401444
designator D?, comment 82401444
TVS Diode WE-TVS-SS, VRWM=5V; Manufacturer: Würth Elektronik eiSos GmbH; Descripción: Supresores de descargas electrostáticas; CostoVendedor1: 1.48; Vendedor1: Mouser; Vendedor2: Digi-Key; DataSheet: http://www.mouser.com/ds/2/445/82401444-372914.pdf; PartNumber: 82401444; LinkVendedor1: https://ar.mouser.com/ProductDetail/Wurth-Electronics/82401444?qs=%2fha2pyFadugrqVOnhQc9hRTe12XdQqMCDj%2fJCcJVK2M%3d; Stock1: 2900
footprint MSOP-10L (MSOP-10L, 10-Leads, Body 5x3mm, Pitch 0.5mm)
pins: 1 I/O1, 2 I/O2, 3 VDD, 4 I/O3, 5 I/O4, 6 NC, 7 NC, 8 GND, 9 NC, 10 NC

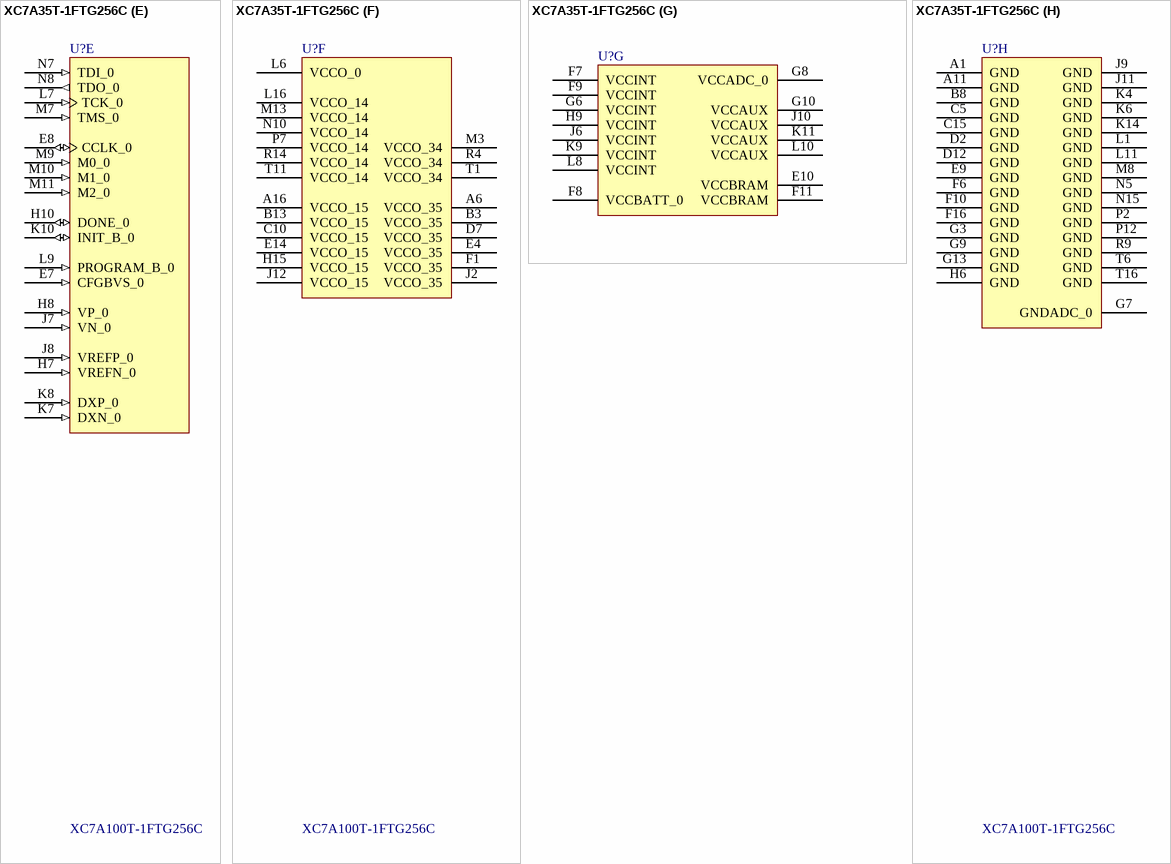
[diagram p5: symbol XC7A35T-1FTG256C]

## XC7A35T-1FTG256C
designator U?, comment XC7A100T-1FTG256C
Artix-7 FPGA, 170 User I/Os, 0 GTP, 256-Ball BGA, Speed Grade 1, Commercial Grade, Pb-Free; Manufacturer: Xilinx Inc.; CostoVendedor2: 109; Vendedor1: Mouser; Vendedor2: Digi-Key; DataSheet: https://www.xilinx.com/support/documentation/data_sheets/ds181_Artix_7_Data_Sheet.pdf; Descripción: Artix-7 FPGA, 170 User I/Os, 0 GTP, 256-Ball BGA, Speed Grade 1, Commercial Grade, Pb-Free; LinkVendedor2: https://www.digikey.com/products/en?keywords=XC7A100T-1FTG256C; Package: 256-LBGA; PartNumber: XC7A100T-1FTG256C; Stock2: 214
footprint FTG256 (BGA, 256-Balls, Body 17x17mm, Pitch 1mm)
part A pins: J13 IO_L1P_T0_D00_MOSI_14 (io), J14 IO_L1N_T0_D01_DIN_14 (io), K12 IO_0_14 (io), K13 IO_L5P_T0_D06_14 (io), K15 IO_L2P_T0_D02_14 (io), K16 IO_L2N_T0_D03_14 (io), L12 IO_L6P_T0_FCS_B_14 (io), L13 IO_L5N_T0_D07_14 (io), L14 IO_L4P_T0_D04_14 (io), L15 IO_L3P_T0_DQS_PUDC_B_14 (io), M6 IO_L19P_T3_A10_D26_14 (io), M12 IO_L6N_T0_D08_VREF_14 (io), M14 IO_L4N_T0_D05_14 (io), M15 IO_L3N_T0_DQS_EMCCLK_14 (io), M16 IO_L7P_T1_D09_14 (io), N6 IO_L19N_T3_A09_D25_VREF_14 (io), N9 IO_L18P_T2_A12_D28_14 (io), N11 IO_L13P_T2_MRCC_14 (io), N12 IO_L13N_T2_MRCC_14 (io), N13 IO_L11P_T1_SRCC_14 (io), N14 IO_L12P_T1_MRCC_14 (io), N16 IO_L7N_T1_D10_14 (io), P6 IO_25_14 (io), P8 IO_L20P_T3_A08_D24_14 (io), P9 IO_L18N_T2_A11_D27_14 (io), P10 IO_L14P_T2_SRCC_14 (io), P11 IO_L14N_T2_SRCC_14 (io), P13 IO_L11N_T1_SRCC_14 (io), P14 IO_L12N_T1_MRCC_14 (io), P15 IO_L8P_T1_D11_14 (io), P16 IO_L8N_T1_D12_14 (io), R5 IO_L23P_T3_A03_D19_14 (io), R6 IO_L24P_T3_A01_D17_14 (io), R7 IO_L24N_T3_A00_D16_14 (io), R8 IO_L20N_T3_A07_D23_14 (io), R10 IO_L17P_T2_A14_D30_14 (io), R11 IO_L17N_T2_A13_D29_14 (io), R12 IO_L15P_T2_DQS_RDWR_B_14 (io), R13 IO_L16P_T2_CSI_B_14 (io), R15 IO_L9P_T1_DQS_14 (io), R16 IO_L9N_T1_DQS_D13_14 (io), T5 IO_L23N_T3_A02_D18_14 (io), T7 IO_L21P_T3_DQS_14 (io), T8 IO_L21N_T3_DQS_A06_D22_14 (io), T9 IO_L22P_T3_A05_D21_14 (io), T10 IO_L22N_T3_A04_D20_14 (io), T12 IO_L15N_T2_DQS_DOUT_CSO_B_14 (io), T13 IO_L16N_T2_A15_D31_14 (io), T14 IO_L10P_T1_D14_14 (io), T15 IO_L10N_T1_D15_14 (io)
part B pins: A8 IO_L2P_T0_AD8P_15 (io), A9 IO_L2N_T0_AD8N_15 (io), A10 IO_L3N_T0_DQS_AD1N_15 (io), A12 IO_L5N_T0_AD9N_15 (io), A13 IO_L7P_T1_AD2P_15 (io), A14 IO_L7N_T1_AD2N_15 (io), A15 IO_L9N_T1_DQS_AD3N_15 (io), B9 IO_L3P_T0_DQS_AD1P_15 (io), B10 IO_L4P_T0_15 (io), B11 IO_L4N_T0_15 (io), B12 IO_L5P_T0_AD9P_15 (io), B14 IO_L8N_T1_AD10N_15 (io), B15 IO_L9P_T1_DQS_AD3P_15 (io), B16 IO_L10N_T1_AD11N_15 (io), C8 IO_L1P_T0_AD0P_15 (io), C9 IO_L1N_T0_AD0N_15 (io), C11 IO_L11P_T1_SRCC_15 (io), C12 IO_L11N_T1_SRCC_15 (io), C13 IO_L12N_T1_MRCC_15 (io), C14 IO_L8P_T1_AD10P_15 (io), C16 IO_L10P_T1_AD11P_15 (io), D8 IO_L6P_T0_15 (io), D9 IO_L6N_T0_VREF_15 (io), D10 IO_0_15 (io), D11 IO_L14N_T2_SRCC_15 (io), D13 IO_L12P_T1_MRCC_15 (io), D14 IO_L15P_T2_DQS_15 (io), D15 IO_L15N_T2_DQS_ADV_B_15 (io), D16 IO_L17N_T2_A25_15 (io), E11 IO_L14P_T2_SRCC_15 (io), E12 IO_L13P_T2_MRCC_15 (io), E13 IO_L13N_T2_MRCC_15 (io), E15 IO_L18N_T2_A23_15 (io), E16 IO_L17P_T2_A26_15 (io), F12 IO_L16P_T2_A28_15 (io), F13 IO_L16N_T2_A27_15 (io), F14 IO_L21N_T3_DQS_A18_15 (io), F15 IO_L18P_T2_A24_15 (io), G11 IO_25_15 (io), G12 IO_L19N_T3_A21_VREF_15 (io), G14 IO_L21P_T3_DQS_15 (io), G15 IO_L24N_T3_RS0_15 (io), G16 IO_L22N_T3_A16_15 (io), H11 IO_L19P_T3_A22_15 (io), H12 IO_L20P_T3_A20_15 (io), H13 IO_L20N_T3_A19_15 (io), H14 IO_L24P_T3_RS1_15 (io), H16 IO_L22P_T3_A17_15 (io), J15 IO_L23P_T3_FOE_B_15 (io), J16 IO_L23N_T3_FWE_B_15 (io)
part C pins: L4 IO_L1P_T0_34 (io), L5 IO_0_34 (io), M1 IO_L2N_T0_34 (io), M2 IO_L2P_T0_34 (io), M4 IO_L1N_T0_34 (io), M5 IO_L6P_T0_34 (io), N1 IO_L4P_T0_34 (io), N2 IO_L3N_T0_DQS_34 (io), N3 IO_L3P_T0_DQS_34 (io), N4 IO_L6N_T0_VREF_34 (io), P1 IO_L4N_T0_34 (io), P3 IO_L5N_T0_34 (io), P4 IO_L5P_T0_34 (io), P5 IO_L10P_T1_34 (io), R1 IO_L7N_T1_34 (io), R2 IO_L7P_T1_34 (io), R3 IO_L8P_T1_34 (io), T2 IO_L8N_T1_34 (io), T3 IO_L9N_T1_DQS_34 (io), T4 IO_L9P_T1_DQS_34 (io)
part D pins: A2 IO_L8N_T1_AD14N_35 (io), A3 IO_L4N_T0_35 (io), A4 IO_L3N_T0_DQS_AD5N_35 (io), A5 IO_L3P_T0_DQS_AD5P_35 (io), A7 IO_L1N_T0_AD4N_35 (io), B1 IO_L9N_T1_DQS_AD7N_35 (io), B2 IO_L8P_T1_AD14P_35 (io), B4 IO_L4P_T0_35 (io), B5 IO_L2N_T0_AD12N_35 (io), B6 IO_L2P_T0_AD12P_35 (io), B7 IO_L1P_T0_AD4P_35 (io), C1 IO_L9P_T1_DQS_AD7P_35 (io), C2 IO_L7N_T1_AD6N_35 (io), C3 IO_L7P_T1_AD6P_35 (io), C4 IO_L12N_T1_MRCC_35 (io), C6 IO_L5N_T0_AD13N_35 (io), C7 IO_L5P_T0_AD13P_35 (io), D1 IO_L10N_T1_AD15N_35 (io), D3 IO_L11N_T1_SRCC_35 (io), D4 IO_L12P_T1_MRCC_35 (io), D5 IO_L6N_T0_VREF_35 (io), D6 IO_L6P_T0_35 (io), E1 IO_L15N_T2_DQS_35 (io), E2 IO_L10P_T1_AD15P_35 (io), E3 IO_L11P_T1_SRCC_35 (io), E5 IO_L13N_T2_MRCC_35 (io), E6 IO_0_35 (io), F2 IO_L15P_T2_DQS_35 (io), F3 IO_L14N_T2_SRCC_35 (io), F4 IO_L14P_T2_SRCC_35 (io), F5 IO_L13P_T2_MRCC_35 (io), G1 IO_L17N_T2_35 (io), G2 IO_L17P_T2_35 (io), G4 IO_L16N_T2_35 (io), G5 IO_L16P_T2_35 (io), H1 IO_L20N_T3_35 (io), H2 IO_L20P_T3_35 (io), H3 IO_L21N_T3_DQS_35 (io), H4 IO_L18N_T2_35 (io), H5 IO_L18P_T2_35 (io), J1 IO_L22N_T3_35 (io), J3 IO_L21P_T3_DQS_35 (io), J4 IO_L19N_T3_VREF_35 (io), J5 IO_L19P_T3_35 (io), K1 IO_L22P_T3_35 (io), K2 IO_L24N_T3_35 (io), K3 IO_L24P_T3_35 (io), K5 IO_25_35 (io), L2 IO_L23N_T3_35 (io), L3 IO_L23P_T3_35 (io)
part E pins: E7 CFGBVS_0 (in), E8 CCLK_0 (io), H7 VREFN_0 (in), H8 VP_0 (in), H10 DONE_0 (io), J7 VN_0 (in), J8 VREFP_0 (in), K7 DXN_0 (in), K8 DXP_0 (in), K10 INIT_B_0 (io), L7 TCK_0 (in), L9 PROGRAM_B_0 (in), M7 TMS_0 (in), M9 M0_0 (in), M10 M1_0 (in), M11 M2_0 (in), N7 TDI_0 (in), N8 TDO_0 (out)
part F pins: A6 VCCO_35 (power), A16 VCCO_15 (power), B3 VCCO_35 (power), B13 VCCO_15 (power), C10 VCCO_15 (power), D7 VCCO_35 (power), E4 VCCO_35 (power), E14 VCCO_15 (power), F1 VCCO_35 (power), H15 VCCO_15 (power), J2 VCCO_35 (power), J12 VCCO_15 (power), L6 VCCO_0 (power), L16 VCCO_14 (power), M3 VCCO_34 (power), M13 VCCO_14 (power), N10 VCCO_14 (power), P7 VCCO_14 (power), R4 VCCO_34 (power), R14 VCCO_14 (power), T1 VCCO_34 (power), T11 VCCO_14 (power)
part G pins: E10 VCCBRAM (power), F7 VCCINT (power), F8 VCCBATT_0 (power), F9 VCCINT (power), F11 VCCBRAM (power), G6 VCCINT (power), G8 VCCADC_0 (power), G10 VCCAUX (power), H9 VCCINT (power), J6 VCCINT (power), J10 VCCAUX (power), K9 VCCINT (power), K11 VCCAUX (power), L8 VCCINT (power), L10 VCCAUX (power)
part H pins: A1 GND (power), A11 GND (power), B8 GND (power), C5 GND (power), C15 GND (power), D2 GND (power), D12 GND (power), E9 GND (power), F6 GND (power), F10 GND (power), F16 GND (power), G3 GND (power), G7 GNDADC_0 (power), G9 GND (power), G13 GND (power), H6 GND (power), J9 GND (power), J11 GND (power), K4 GND (power), K6 GND (power), K14 GND (power), L1 GND (power), L11 GND (power), M8 GND (power), N5 GND (power), N15 GND (power), P2 GND (power), P12 GND (power), R9 GND (power), T6 GND (power), T16 GND (power)
part A text: BANK 14
part B text: BANK 15
part C text: BANK 34
part D text: BANK 35